# Altium integrated library Olin Electric Motorsports.IntLib: 23 symbols
Pins are listed as number, name and electrical type; pins without a type are passive.

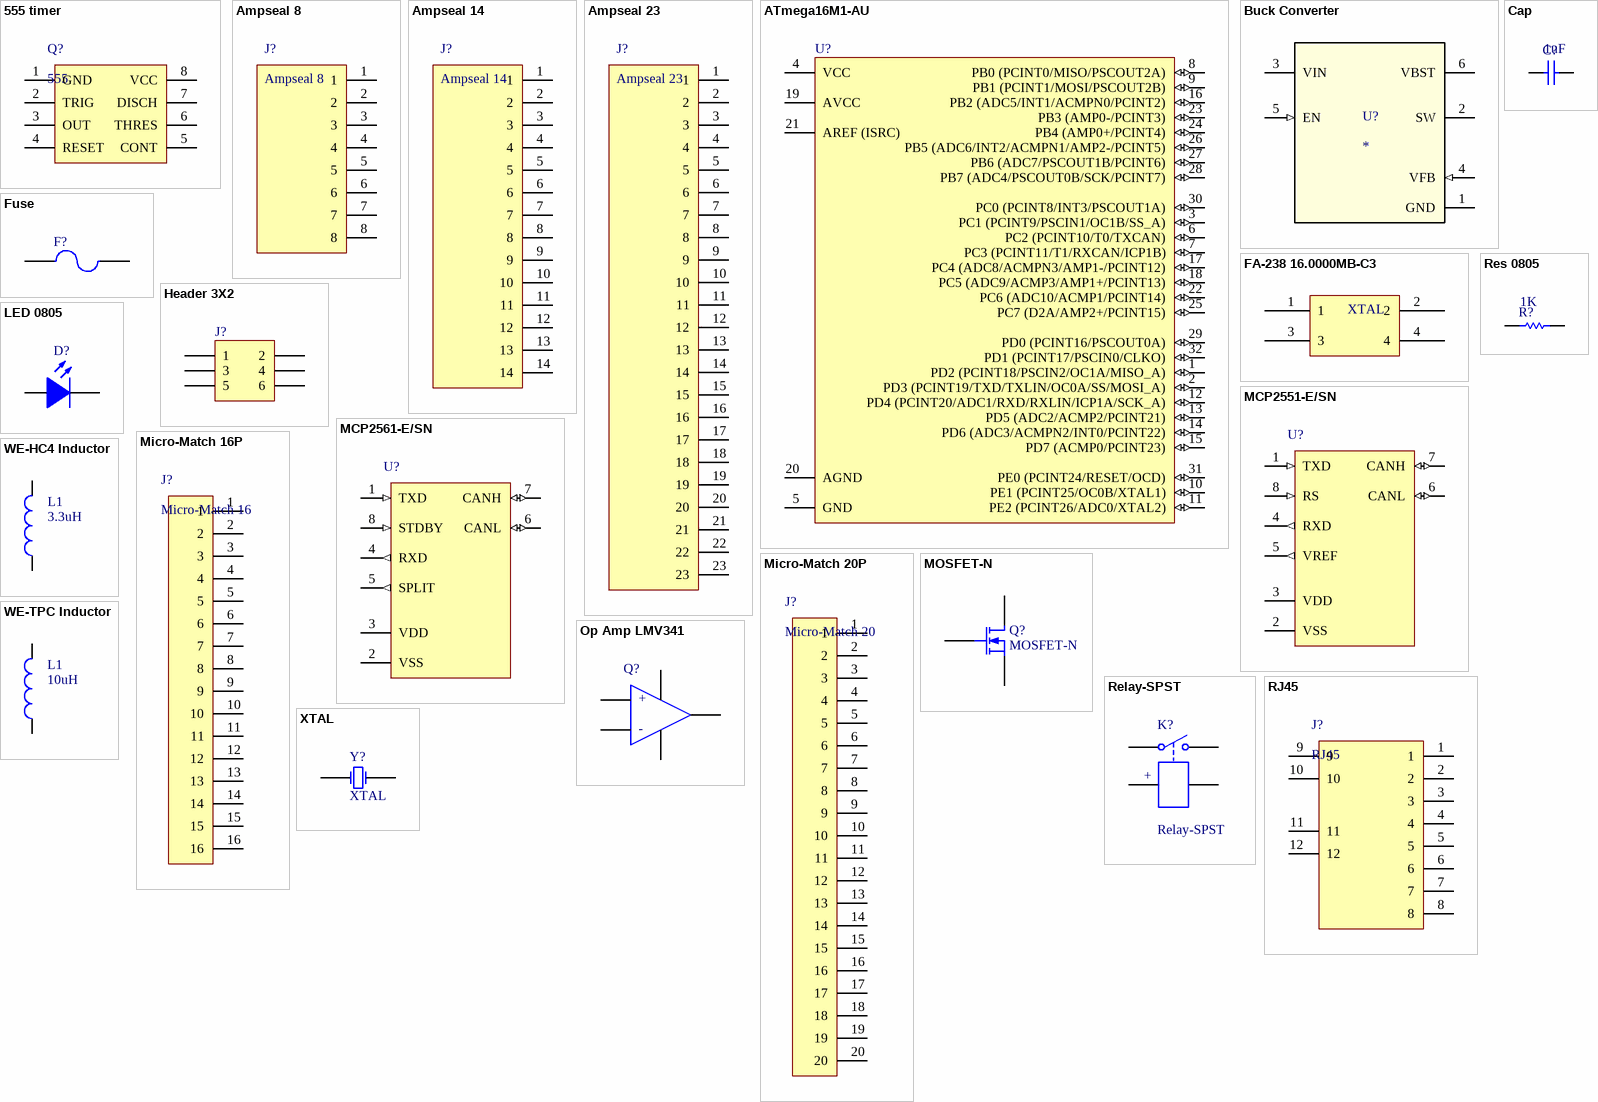
[diagram p0: symbols 555 timer to XTAL]

## 555 timer
designator Q?, comment 555
Manufacturer: Texas Instruments; Manufacturer Part Number: NA555DR; Type: 555 Type, Timer/Oscillator (Single); Frequency: 100kHz; Voltage - Supply: 4.5 V ~ 16 V; Current - Supply: 10mA; Supplier 1: Digi-Key; RoHS: RoHS Compliant; Category: Integrated Circuits (ICs); Stock 1: 22743; Pricing 1: 1=0.47, 10=0.352, 100=0.2195, 500=0.15008, 1000=0.11536 (USD); Packaging: Cut Tape (CT); Part Status: Active; Count: -; Operating Temperature: -40°C ~ 105°C; Package / Case: 8-SOIC (0.154", 3.90mm Width); Supplier Device Package: 8-SOIC; Mounting Type: Surface Mount; ComponentLink1URL: http://www.ti.com/lit/ds/symlink/sa555.pdf; ComponentLink1Description: http://www.ti.com/lit/ds/symlink/sa555.pdf; Supplier Part Number 1: 296-21752-1-ND
footprint 555 SOIC
pins: 1 GND, 2 TRIG, 3 OUT, 4 RESET, 5 CONT, 6 THRES, 7 DISCH, 8 VCC

## Ampseal 8
designator J?
footprint Ampseal 8 (776280-1 - AMPSEAL - 8 WAY, PCB HEADER, 90 DEGREE, FLANGE SEAL, BLACK)
pins: 1, 2, 3, 4, 5, 6, 7, 8

## Ampseal 14
designator J?
footprint Ampseal 14 (1-776267-1 - AMPSEAL - 14 WAY, PCB HEADER, GOLD PIN, 90 DEGREE, FLANGE SEAL, BLACK)
pins: 1, 2, 3, 4, 5, 6, 7, 8, 9, 10, 11, 12, 13, 14

## Ampseal 23
designator J?
footprint Ampseal 23 (1-776087-1 - AMPSEAL - 23 WAY, PCB HEADER, GOLD PIN, 90 DEGREE, FLANGE SEAL, BLACK)
pins: 1, 2, 3, 4, 5, 6, 7, 8, 9, 10, 11, 12, 13, 14, 15, 16, 17, 18, 19, 20, 21, 22, 23

## ATmega16M1-AU
designator U?
8-bit AVR Microcontroller, 2.7-5.5V, 16MHz, 16KB Flash, 512 Bytes EEPROM, 1KB SRAM, Industrial Grade (-40° to +85°C), 32-Pin TQFP; DatasheetVersion: revD, Nov-2010; PackageVersion: revC, Oct-2010; PackageReference: 32A; PackageDescription: 32-Lead, 7x7x1.0 mm Body, 0.8mm Lead Pitch, Thin Profile Plastic Quad Flat Package (TQFP); Code_JEDEC: MS-026-ABA; ComponentLink1Description: Manufacturer URL; ComponentLink1URL: http://www.atmel.com/; ComponentLink2Description: ATmega16M1/32M1/64M1 Datasheet; ComponentLink2URL: http://www.atmel.com/dyn/resources/prod_documents/doc8209.pdf; ComponentLink3Description: ATmega16M1/32M1/64M1 Summary; ComponentLink3URL: http://www.atmel.com/dyn/resources/prod_documents/8209S.pdf
footprint 32A_N (Thin QFP, 32-Leads, Body 7x7mm, Pitch 0.8mm, IPC Medium Density)
footprint 32A_L (Thin QFP, 32-Leads, Body 7x7mm, Pitch 0.8mm, IPC High Density)
footprint 32A_M (Thin QFP, 32-Leads, Body 7x7mm, Pitch 0.8mm, IPC Low Density)
pins: 1 PD2 (PCINT18/PSCIN2/OC1A/MISO_A) (io), 2 PD3 (PCINT19/TXD/TXLIN/OC0A/SS/MOSI_A) (io), 3 PC1 (PCINT9/PSCIN1/OC1B/SS_A) (io), 4 VCC (power), 5 GND (power), 6 PC2 (PCINT10/T0/TXCAN) (io), 7 PC3 (PCINT11/T1/RXCAN/ICP1B) (io), 8 PB0 (PCINT0/MISO/PSCOUT2A) (io), 9 PB1 (PCINT1/MOSI/PSCOUT2B) (io), 10 PE1 (PCINT25/OC0B/XTAL1) (io), 11 PE2 (PCINT26/ADC0/XTAL2) (io), 12 PD4 (PCINT20/ADC1/RXD/RXLIN/ICP1A/SCK_A) (io), 13 PD5 (ADC2/ACMP2/PCINT21) (io), 14 PD6 (ADC3/ACMPN2/INT0/PCINT22) (io), 15 PD7 (ACMP0/PCINT23) (io), 16 PB2 (ADC5/INT1/ACMPN0/PCINT2) (io), 17 PC4 (ADC8/ACMPN3/AMP1-/PCINT12) (io), 18 PC5 (ADC9/ACMP3/AMP1+/PCINT13) (io), 19 AVCC (power), 20 AGND (power), 21 AREF (ISRC) (power), 22 PC6 (ADC10/ACMP1/PCINT14) (io), 23 PB3 (AMP0-/PCINT3) (io), 24 PB4 (AMP0+/PCINT4) (io), 25 PC7 (D2A/AMP2+/PCINT15) (io), 26 PB5 (ADC6/INT2/ACMPN1/AMP2-/PCINT5) (io), 27 PB6 (ADC7/PSCOUT1B/PCINT6) (io), 28 PB7 (ADC4/PSCOUT0B/SCK/PCINT7) (io), 29 PD0 (PCINT16/PSCOUT0A) (io), 30 PC0 (PCINT8/INT3/PSCOUT1A) (io), 31 PE0 (PCINT24/RESET/OCD) (io), 32 PD1 (PCINT17/PSCIN0/CLKO) (io)

## Buck Converter
designator U?
4.5V to 17V Input, 2A Output, Synchronous Step-Down Converter; PartNumber: TPS562201DDCR; Manufacturer: Texas Instruments; CompType: IC; PIN_COUNT: 6; Application_BuildNumber: *; PackageReference: DDC0006A; MountType: SMT; RefDes: RefDes; Type: DEV; Value: Value
footprint DDC0006A_OEM
pins: 1 GND (power), 2 SW (power), 3 VIN (power), 4 VFB (in), 5 EN (in), 6 VBST (power)

## Cap
designator C?  value 1uF  (hidden comment: Cap)
Surface mount capacitor
simulation model CAP (Semiconductor Capacitor)
signal-integrity model Cap Semi
footprint 0805_N
footprint 1206
pins: 1, 2

## FA-238 16.0000MB-C3
designator XTAL  (value not drawn)
CRYSTAL 16.0000MHZ 18PF SMD; Manufacturer: EPSON; Frequency: 16MHz; Frequency Stability: ±30ppm; Frequency Tolerance: ±50ppm; ESR (Equivalent Series Resistance): 80 Ohm; Operating Mode: Fundamental; Supplier 1: Digi-Key; Manufacturer Part Number: FA-238 16.0000MB-C3; RoHS: RoHS Compliant; Category: Crystals, Oscillators, Resonators; Stock 1: 8975; Pricing 1: 1=0.41, 10=0.342, 50=0.3068, 100=0.273 (USD); Packaging: Cut Tape (CT); Part Status: Active; Type: MHz Crystal; Load Capacitance: 18pF; Operating Temperature: -20°C ~ 70°C; Ratings: -; Mounting Type: Surface Mount; Package / Case: 4-SMD, No Lead (DFN, LCC); Size / Dimension: 0.126" L x 0.098" W (3.20mm x 2.50mm); Height: 0.028" (0.70mm); ComponentLink1URL: https://support.epson.biz/td/api/doc_check.php?dl=brief_FA-238V_en.pdf; ComponentLink1Description: https://support.epson.biz/td/api/doc_check.php?dl=brief_FA-238V_en.pdf; Supplier Part Number 1: SER3686CT-ND
footprint FA-238 (4-SMD XTAL)
pins: 1, 2, 3, 4

## Fuse
designator F?
surface mount fuse; Value: 2A
simulation model FUSE (Spice Subcircuit)
footprint 0805_N
footprint 1206
pins: 1, 2

## Header 3X2
designator J?  (value not drawn)
Header, 3-Pin, Dual row
footprint HDR2X3 (Connector; Header; 3x2 Position)
signal-integrity model Connector
pins: 1, 2, 3, 4, 5, 6

## LED 0805
designator D?  (value not drawn)
LED surface mount
simulation model LED0 (Diode)
footprint 0805_N - LED
pins: 1 A, 2 K

## MCP2551-E/SN
designator U?
High-Speed CAN Transceiver, 8-Pin SOIC, Extended Temperature; Manufacturer: Microchip; PartNumber: MCP2551-E/SN; DatasheetVersion: revF, Jul-2010; PackageVersion: revBB, Aug-2009; PackageReference: SOIC-SN8; PackageDescription: 8-Lead Plastic Small Outline (SN) - Narrow, 3.90mm Body [SOIC]; Mounting Technology: Surface Mount; Code_JEDEC: MS-012; Code_IPC: SOIC127P600-8; ComponentLink1Description: Manufacturer URL; ComponentLink1URL: http://www.microchip.com/; ComponentLink2Description: Datasheet; ComponentLink2URL: http://ww1.microchip.com/downloads/en/DeviceDoc/21667F.pdf; ComponentLink3Description: Package Specification; ComponentLink3URL: http://www.microchip.com/stellent/groups/techpub_sg/documents/packagingspec/en012702.pdf
footprint SOIC-SN8_N (SOIC, 8-Leads, Body 4.9x3.8mm, Pitch 1.27mm, IPC Medium Density)
footprint SOIC-SN8_L (SOIC, 8-Leads, Body 4.9x3.8mm, Pitch 1.27mm, IPC High Density)
footprint SOIC-SN8_M (SOIC, 8-Leads, Body 4.9x3.8mm, Pitch 1.27mm, IPC Low Density)
footprint SOIC-SN8_OEM (SOIC, 8-Leads, Body 4.9x3.8mm, Pitch 1.27mm, IPC Medium Density)
pins: 1 TXD (in), 2 VSS (power), 3 VDD (power), 4 RXD (out), 5 VREF (out), 6 CANL (io), 7 CANH (io), 8 RS (in)

## MCP2561-E/SN
designator U?
High-Speed CAN Transceiver, 8-Pin SOIC, Extended Temperature; Manufacturer: Microchip; PartNumber: MCP2551-E/SN; Manufacturer Part Number: MCP2561-E/SN; Number of Drivers/Receivers: 1/1; Duplex: Full; Voltage - Supply: 4.5 V ~ 5.5 V; DatasheetVersion: revF, Jul-2010; PackageVersion: revBB, Aug-2009; PackageReference: SOIC-SN8; PackageDescription: 8-Lead Plastic Small Outline (SN) - Narrow, 3.90mm Body [SOIC]; Mounting Technology: Surface Mount; Code_JEDEC: MS-012; Code_IPC: SOIC127P600-8; ComponentLink1Description: Manufacturer URL; ComponentLink1URL: http://www.microchip.com/; ComponentLink2Description: Datasheet; ComponentLink2URL: http://ww1.microchip.com/downloads/en/DeviceDoc/21667F.pdf; ComponentLink3Description: Package Specification; ComponentLink3URL: http://www.microchip.com/stellent/groups/techpub_sg/documents/packagingspec/en012702.pdf; Supplier 1: Digi-Key; RoHS: RoHS Compliant; Category: Integrated Circuits (ICs); Stock 1: 0; Pricing 1: 1=0.87, 25=0.72, 100=0.66 (USD); Packaging: Tube; Part Status: Active; Type: Transceiver; Protocol: CAN; Receiver Hysteresis: -; Data Rate: -; Operating Temperature: -40°C ~ 125°C; Mounting Type: Surface Mount; Package / Case: 8-SOIC (0.154", 3.90mm Width); Supplier Device Package: 8-SOIC; ComponentLink4URL: http://www.microchip.com/mymicrochip/filehandler.aspx?ddocname=en561044; ComponentLink4Description: http://www.microchip.com/mymicrochip/filehandler.aspx?ddocname=en561044; Supplier Part Number 1: MCP2561-E/SN-ND
footprint SOIC-SN8_N (SOIC, 8-Leads, Body 4.9x3.8mm, Pitch 1.27mm, IPC Medium Density)
footprint SOIC-SN8_L (SOIC, 8-Leads, Body 4.9x3.8mm, Pitch 1.27mm, IPC High Density)
footprint SOIC-SN8_M (SOIC, 8-Leads, Body 4.9x3.8mm, Pitch 1.27mm, IPC Low Density)
footprint SOIC-SN8_OEM (SOIC, 8-Leads, Body 4.9x3.8mm, Pitch 1.27mm, IPC Medium Density)
pins: 1 TXD (in), 2 VSS (power), 3 VDD (power), 4 RXD (out), 5 SPLIT (out), 6 CANL (io), 7 CANH (io), 8 STDBY (in)

## Micro-Match 16P
designator J?, comment Micro-Match 16
16 Position Receptacle Connector 0.100" (2.54mm) Through Hole Tin; Manufacturer: TE Connectivity AMP Connectors; Manufacturer Part Number: 1-338068-6; Description: CONN FMALE-ON-BRD 16POS VERT T/H; Number of Positions: 16; Number of Positions Loaded: All; Row Spacing: 0.059" (1.50mm); Supplier 1: Digi-Key; RoHS: RoHS Compliant; Category: Connectors, Interconnects; Stock 1: 6882; Pricing 1: 1=1.51, 10=1.369, 25=1.2852, 50=1.2292, 100=1.1733, 250=1.0616, 500=0.97778, 1000=0.8381 (USD); Packaging: Cut Tape (CT); Part Status: Active; Connector Type: Receptacle; Contact Type: Female Socket; Pitch: 0.100" (2.54mm); Number of Rows: 2; Mounting Type: Through Hole; Termination: Press-Fit; Fastening Type: Friction Lock; Features: -; Contact Finish: Tin; Contact Finish Thickness: -; Color: Red; ComponentLink1URL: http://www.te.com/commerce/DocumentDelivery/DDEController?Action=srchrtrv&DocNm=338068&DocType=Customer+Drawing&DocLang=English; ComponentLink1Description: http://www.te.com/commerce/DocumentDelivery/DDEController?Action=srchrtrv&DocNm=338068&DocType=Customer+Drawing&DocLang=English; Supplier Part Number 1: A99501CT-ND
footprint Micro-Match 16P
pins: 1, 2, 3, 4, 5, 6, 7, 8, 9, 10, 11, 12, 13, 14, 15, 16

## Micro-Match 20P
designator J?, comment Micro-Match 20
24 Position Receptacle Connector 0.100" (2.54mm) Surface Mount Tin; Manufacturer: TE Connectivity AMP Connectors; Manufacturer Part Number: 2-338068-0; Description: CONN FMALE-ON-BRD 20POS VERT T/H; Number of Positions: 20; Number of Positions Loaded: All; Row Spacing: 0.059" (1.50mm); Supplier 1: Digi-Key; RoHS: RoHS Compliant; Category: Connectors, Interconnects; Stock 1: 6131; Pricing 1: 1=1.88, 10=1.704, 25=1.5996, 50=1.5302, 100=1.4607, 250=1.32156, 500=1.21724, 1000=1.04334 (USD); Packaging: Cut Tape (CT); Part Status: Active; Connector Type: Receptacle; Contact Type: Female Socket; Pitch: 0.100" (2.54mm); Number of Rows: 2; Mounting Type: Through Hole; Termination: Press-Fit; Fastening Type: Friction Lock; Features: -; Contact Finish: Tin; Contact Finish Thickness: -; Color: Red; ComponentLink1URL: http://www.te.com/commerce/DocumentDelivery/DDEController?Action=srchrtrv&DocNm=338068&DocType=Customer+Drawing&DocLang=English; ComponentLink1Description: http://www.te.com/commerce/DocumentDelivery/DDEController?Action=srchrtrv&DocNm=338068&DocType=Customer+Drawing&DocLang=English; Supplier Part Number 1: A99499CT-ND
footprint Micro-Match 20P
pins: 1, 2, 3, 4, 5, 6, 7, 8, 9, 10, 11, 12, 13, 14, 15, 16, 17, 18, 19, 20

## MOSFET-N
designator Q?
N-Channel MOSFET
simulation model NMOS (MOSFET-N)
footprint SOT-23_N (SOT23, 3-Leads, Body 2.9x1.3mm, Pitch 0.95mm, Lead Span 2.5mm, IPC Medium Density)
pins: 1 G, 2 S, 3 D

## Op Amp LMV341
designator Q?, comment OpAmp  (value not drawn)
Manufacturer: Texas Instruments; Manufacturer Part Number: LMV341QDCKRQ1; Amplifier Type: General Purpose; Number of Circuits: 1; Output Type: Rail-to-Rail; Slew Rate: 1 V/µs; Gain Bandwidth Product: 1MHz; Current - Input Bias: 1pA; Voltage - Input Offset: 250µV; Current - Supply: 107µA; Current - Output / Channel: 113mA; Voltage - Supply, Single/Dual (±): 2.5 V ~ 5.5 V; Supplier 1: Digi-Key; RoHS: RoHS Compliant; Category: Integrated Circuits (ICs); Stock 1: 3000; Pricing 1: 3000=0.3335, 6000=0.3105, 15000=0.299, 30000=0.2875 (USD); Packaging: Tape & Reel (TR); Part Status: Active; -3db Bandwidth: -; Operating Temperature: -40°C ~ 125°C; Mounting Type: Surface Mount; Package / Case: 6-TSSOP, SC-88, SOT-363; Supplier Device Package: SC-70-6; ComponentLink1URL: http://www.ti.com/lit/ds/symlink/lmv341-q1.pdf; ComponentLink1Description: http://www.ti.com/lit/ds/symlink/lmv341-q1.pdf; Supplier Part Number 1: 296-24893-2-ND
footprint OpAmp 6-TSSOP
pins: 1 IN+, 2 GND, 3 IN-, 4 OUT, 6 V+
text: +

## Relay-SPST
designator K?
Single-Pole Single-Throw Relay; Supplier 1: Digi-Key; Supplier Part Number 1: Z3601-ND
simulation model SPSTRELAY (Spice Subcircuit)
footprint G6C-1117P-US-DC12 (Shutdown Relay)
pins: 1 Coil -, 3 Switch, 4 Switch, 8 Coil +
text: +

## Res 0805
designator R?, comment value 1K  (hidden comment: Res)
surface mount resistor
simulation model RESISTOR (Resistor)
signal-integrity model Res
footprint 0805_N
pins: 1, 2

## RJ45
designator J?
Jack Modular Connector 8p8c (RJ45, Ethernet) 90° Angle (Right) Unshielded
footprint RJ45
pins: 1, 2, 3, 4, 5, 6, 7, 8, 9, 10, 11, 12

## WE-HC4 Inductor
designator L1  value 3.3uH  (hidden comment: WE-HC4 Inductor)
Inductor for Buck Converter; Manufacturer: Wurth Electronics Inc; Manufacturer Part Number: 744025100; Code_IEC: 1005; Type: Wirewound; Material - Core: Ferrite; Inductance: 10µH; Tolerance: ±20%; Current Rating: 1A; Current - Saturation: 1.1A; Shielding: Shielded; DC Resistance (DCR): 190 mOhm Max; Frequency - Self Resonant: 41MHz; Frequency - Test: 100kHz; Published: 8-Jun-2000; LatestRevisionDate: 29-May-2009; LatestRevisionNote: IPC-7351 Footprint Added.; PackageReference: 0402-A; Publisher: Altium Limited; PackageDescription: Chip Inductor; Code_JEITA: 0402; RoHS: RoHS Compliant; Category: Inductors, Coils, Chokes; Packaging: Cut Tape (CT); Part Status: Active; Q @ Freq: -; Ratings: -; Operating Temperature: -40°C ~ 125°C; Mounting Type: Surface Mount; Package / Case: Nonstandard; Size / Dimension: 0.110" L x 0.110" W (2.80mm x 2.80mm); Height - Seated (Max): 0.118" (3.00mm); ComponentLink1URL: http://katalog.we-online.de/pbs/datasheet/744025100.pdf; ComponentLink1Description: http://katalog.we-online.de/pbs/datasheet/744025100.pdf; Supplier 1: Digi-Key; Stock 1: 0; Pricing 1: 1000=2.5559 (USD); ComponentLink2URL: http://katalog.we-online.de/pbs/datasheet/744311330.pdf; ComponentLink2Description: http://katalog.we-online.de/pbs/datasheet/744311330.pdf; Supplier Part Number 1: 732-1152-2-ND
simulation model INDUCTOR (Inductor)
signal-integrity model Inductor
footprint WE-HC4 Inductor
pins: 1, 2

## WE-TPC Inductor
designator L1  value 10uH  (hidden comment: WE-TPC Inductor)
Inductor for ATmega; Manufacturer: Wurth Electronics Inc; Manufacturer Part Number: 744025100; Code_IEC: 1005; Type: Wirewound; Material - Core: Ferrite; Inductance: 10µH; Tolerance: ±20%; Current Rating: 1A; Current - Saturation: 1.1A; Shielding: Shielded; DC Resistance (DCR): 190 mOhm Max; Frequency - Self Resonant: 41MHz; Frequency - Test: 100kHz; Published: 8-Jun-2000; LatestRevisionDate: 29-May-2009; LatestRevisionNote: IPC-7351 Footprint Added.; PackageReference: 0402-A; Publisher: Altium Limited; PackageDescription: Chip Inductor; Code_JEITA: 0402; Supplier 1: Digi-Key; Supplier Part Number 1: 732-2617-1-ND; RoHS: RoHS Compliant; Category: Inductors, Coils, Chokes; Stock 1: 2156; Pricing 1: 1=2.1, 10=2, 50=1.9, 100=1.5, 250=1.35 (USD); Packaging: Cut Tape (CT); Part Status: Active; Q @ Freq: -; Ratings: -; Operating Temperature: -40°C ~ 125°C; Mounting Type: Surface Mount; Package / Case: Nonstandard; Size / Dimension: 0.110" L x 0.110" W (2.80mm x 2.80mm); Height - Seated (Max): 0.118" (3.00mm); ComponentLink1URL: http://katalog.we-online.de/pbs/datasheet/744025100.pdf; ComponentLink1Description: http://katalog.we-online.de/pbs/datasheet/744025100.pdf
simulation model INDUCTOR (Inductor)
signal-integrity model Inductor
footprint WE_TPC
pins: 1, 2

## XTAL
designator Y?
Crystal Oscillator
simulation model XTAL (Spice Subcircuit)
footprint HC49/US
pins: 1 OSC1, 2 OSC2